# Altium footprint library Pioneer_PCB_lab.PcbLib: 7 footprints
Each footprint in its own frame and in the unit in brackets; x right, y up, seen from the top. Pads: shape width x height; smd on the part's side, far side on the other; paste and mask are expansions set on the pad; w line width, h text height; cw(c..) or ccw(c..) is an arc to the next point about the centre after c.
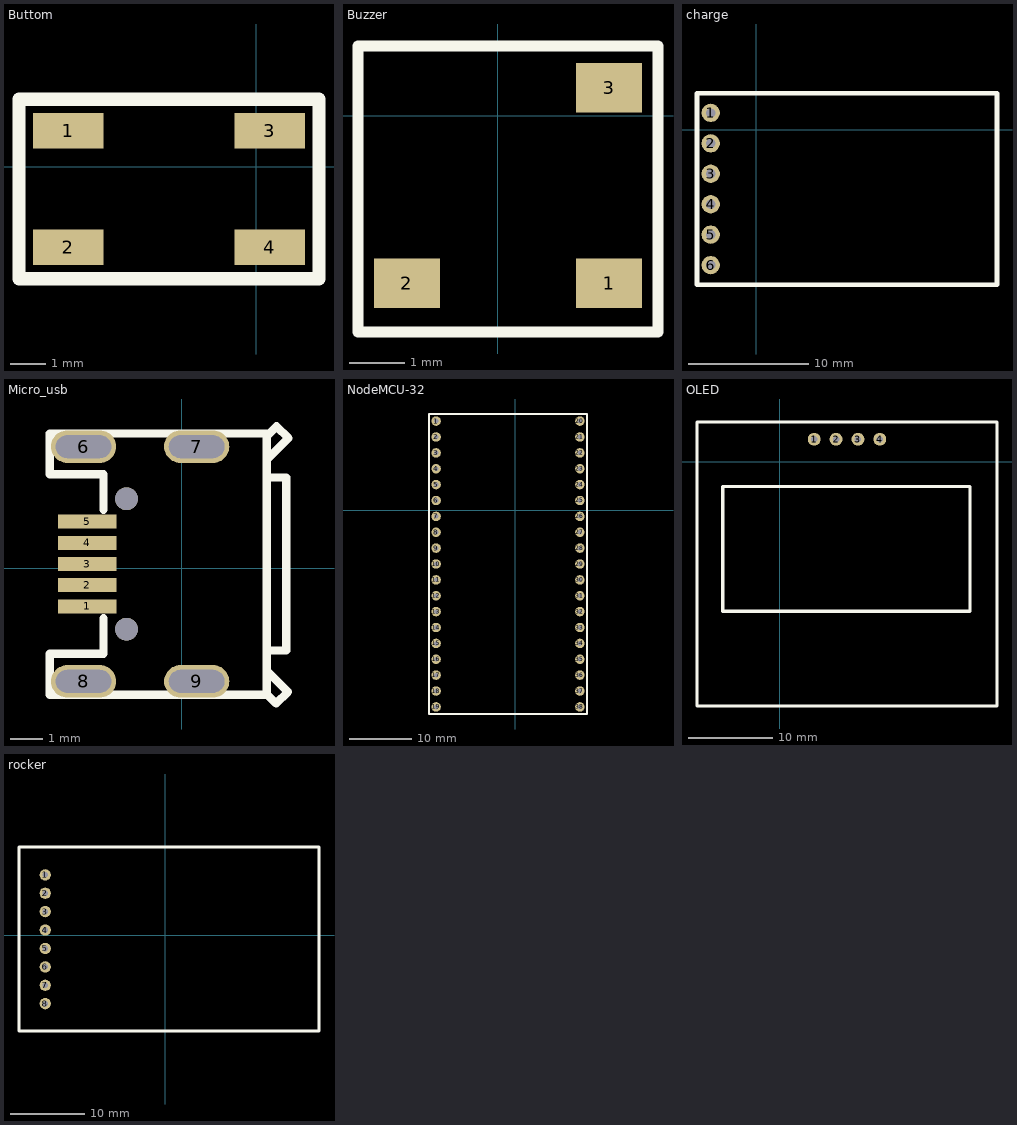
[diagram p0: the footprints below, top view; thin cyan lines are the x and y axes]

## Buttom [mil]
pads (4):
  rect 78.74x39.37 smd: 1(-210,40) 2(-210,-90) 3(15,40) 4(15,-90)
Top Overlay:
  lines w15: -265,-125 -265,75 70,75 70,-125 -265,-125

## Buzzer [mil]
pads (3):
  rect 47.24x35.43 smd: 1(80,-120) 2(-65,-120) 3(80,20)
Top Overlay:
  lines w7.87: -100,-155 -100,50 115,50 115,-155 -100,-155

## charge [mil]
pads (6):
  round 60 hole 30: 1(-150,55) 2(-150,-45) 3(-150,-145) 4(-150,-245) 5(-150,-345) 6(-150,-445)
Top Overlay:
  lines w15: -195,-510 790,-510 790,120 -195,120 -195,-510

## Micro_usb [mm]
pads (11):
  rect 1.8x0.43 smd: 1(-2.896,-1.173) 2(-2.896,-0.523) 3(-2.896,0.127) 4(-2.896,0.777) 5(-2.896,1.427)
  oval 2x1 hole 0.7 slot 1.7 at 0 deg: 6(-3.005,3.726) 7(0.465,3.727) 8(-3.005,-3.472) 9(0.465,-3.473)
  round 0.7 hole 0.7 unplated: ""(-1.685,-1.873) ""(-1.685,2.127)
Top Overlay:
  lines w0.254: -4.045,-2.633 -4.045,-3.883 2.615,-3.883 ; -4.045,-2.623 -2.395,-2.623 -2.395,-1.533 ; -2.395,1.787 -2.395,2.877 -4.045,2.877 -4.045,4.127 2.615,4.127 2.615,-3.873 ; 2.59,-3.843 2.9,-4.153 3.26,-3.793 2.62,-3.153 ; 2.605,4.037 2.915,4.347 3.275,3.987 2.635,3.347 ; 2.62,-2.523 3.21,-2.523 3.21,2.777 2.62,2.777

## NodeMCU-32 [mil] "esp32"
pads (38):
  round 60 hole 30: 1(-500,565) 2(-500,464.44) 3(-500,363.89) 4(-500,263.33) 5(-500,162.78) 6(-500,62.22) 7(-500,-38.33) 8(-500,-138.89) 9(-500,-239.44) 10(-500,-340) 11(-500,-440.56) 12(-500,-541.11) 13(-500,-641.67) 14(-500,-742.22) 15(-500,-842.78) 16(-500,-943.33) 17(-500,-1043.89) 18(-500,-1144.44) 19(-500,-1245) 20(410,565) 21(410,464.44) 22(410,363.89) 23(410,263.33) 24(410,162.78) 25(410,62.22) 26(410,-38.33) 27(410,-138.89) 28(410,-239.44) 29(410,-340) 30(410,-440.56) 31(410,-541.11) 32(410,-641.67) 33(410,-742.22) 34(410,-842.78) 35(410,-943.33) 36(410,-1043.89) 37(410,-1144.44) 38(410,-1245)
Top Overlay:
  lines w15: -545,-1290 455,-1290 455,610 -545,610 -545,-1290

## OLED [mil]
pads (4):
  round 60 hole 30: 1(160,105) 2(261.67,105) 3(363.33,105) 4(465,105)
Top Overlay:
  lines w15: -385,-1135 -385,185 1010,185 1010,-1135 -385,-1135 ; -265,-695 885,-695 885,-115 -265,-115 -265,-695

## rocker [mil]
pads (8):
  round 60 hole 30: 1(-640,322.22) 2(-640,224.05) 3(-640,125.87) 4(-640,27.7) 5(-640,-70.48) 6(-640,-168.65) 7(-640,-266.83) 8(-640,-365)
Top Overlay:
  lines w15: -780,-510 -780,470 820,470 820,-510 -780,-510